# EAGLE library part SLIDER16MM_RESINT_WIDEY (library alarm)
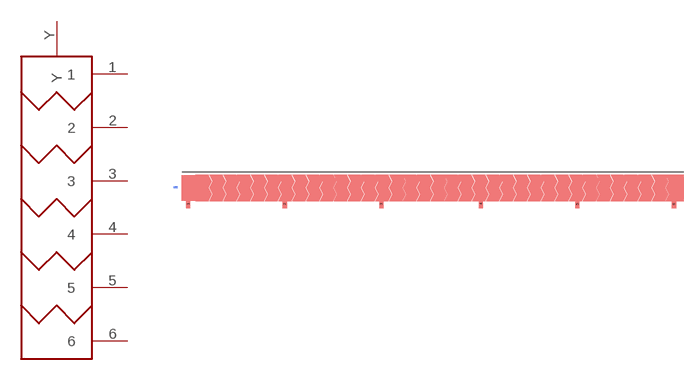
[diagram p2: symbol with the pads of SLIDER160MM_RI_WIDERY; footprint SLIDER160MM_RI_WIDERY]

Designator prefix -

## SLIDER16MM_RESINT_WIDEY  [SLIDER160MM_RI_WIDERY]
1  1
2  2
3  3
4  4
5  5
6  6
Y  Y

## Footprint SLIDER160MM_RI_WIDERY (pad centres in mm)
smd 1.27 x 2.54: 1 -78.01,-5.19; 2 -48.01,-5.19; 3 -18.01,-5.19; 4 12.99,-5.19; 5 42.99,-5.19; 6 72.99,-5.19
smd 1.27 x 0.635 bottom: Y -81.915,0